# EAGLE library part M41T93 (library IntegerLabs)
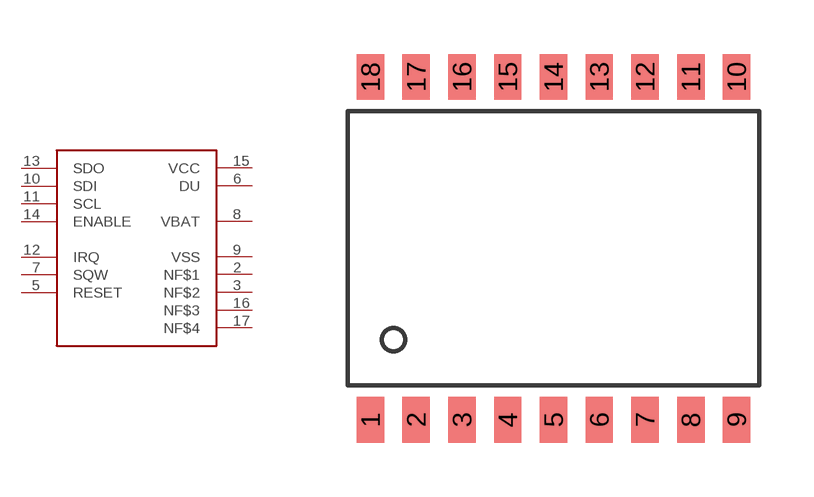
[diagram p17: symbol with the pads of SOX-18; footprint SOX-18]

Designator prefix -

## M41T93  [SOX-18]
2  NF$1
3  NF$2
5  RESET
6  DU
7  SQW
8  VBAT
9  VSS
10  SDI
11  SCL
12  IRQ
13  SDO
14  ENABLE
15  VCC
16  NF$3
17  NF$4

## Footprint SOX-18 (pad centres in mm)
smd 0.762 x 1.27: 1 -7.62,-4.445; 2 -6.35,-4.445; 3 -5.08,-4.445; 4 -3.81,-4.445; 5 -2.54,-4.445; 6 -1.27,-4.445; 7 0,-4.445; 8 1.27,-4.445; 9 2.54,-4.445; 10 2.54,5.08; 11 1.27,5.08; 12 0,5.08; 13 -1.27,5.08; 14 -2.54,5.08; 15 -3.81,5.08; 16 -5.08,5.08; 17 -6.35,5.08; 18 -7.62,5.08